# Altium schematic symbol library INH v4.01.SchLib: 17 symbols
Pins are listed as number, name and electrical type; pins without a type are passive.

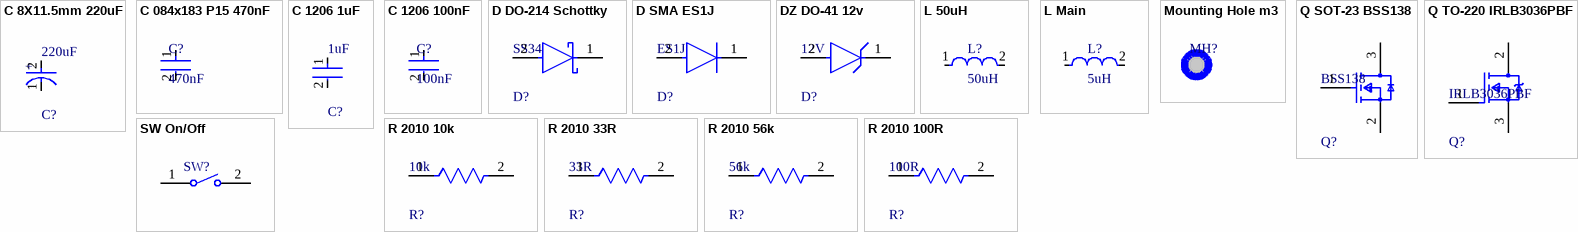
[diagram p0: symbols C 8X11.5mm 220uF to SW On/Off]

## C 8X11.5mm 220uF
designator C?, comment 220uF
Aluminum Electrolytic Capacitors (Radial Lead Type) AEC-Q200 Qualified 220uF ±20% 16V; Life (Hours): 2000Hour; Lead Diameter: 0.6mm; ESR (Equivalent Series Resistance): 130mR; Ripple Current: 500mA; Case/Package: Radial; RoHS Compliant: Yes; Mount: Through Hole; Package Quantity: 200; Capacitance: 220uF; Diameter: 8mm; Height - Seated (Max): 0.492inch; Radiation Hardening: No; Number of Pins: 2; Voltage Rating: 16V; Packaging: Bulk; Series: TA; Voltage Rating (DC): 16V; REACH SVHC: No SVHC; Min Operating Temperature: -40°C; Height: 11.5mm; Termination: Radial; Tolerance: 20%; Impedance: 130mR; Lead Pitch: 3.5mm; Max Operating Temperature: 125°C; Length: 11.5mm
simulation model C_Capacitor_Default (Model Description)
footprint THT Polar Capacitor P3.5mm (8X11.5mm)
pins: 1 C, 2 A
text: +

## C 084x183 P15 470nF
designator C?, comment 470nF
PP X2 Capacitor 470nF 275V
simulation model C_Capacitor_Default (Model Description)
footprint THT Capacitor P15mm (84x183mm)
pins: 1, 2

## C 1206 1uF
designator C?, comment 1uF
Cap Ceramic 1uF 25V X7R ±20% SMD 1206 +125°C Embossed T/R; Radiation Hardening: No; Height: 1.6mm; Mount: Surface Mount; Packaging: Tape and Reel; Width: 0.063inch; Contact Plating: Tin; Package Quantity: 1; Thickness: 0.071inch; Tolerance: 20%; Case/Package: 1206; Length: 3.2mm; Case Code (Imperial): 1206; Dielectric: X7R; Voltage Rating: 25V; Depth: 1.6mm; Voltage Rating (DC): 25V; Max Operating Temperature: 125°C; Case Code (Metric): 3216; Min Operating Temperature: -55°C; Lead Free: Lead Free; Capacitance: 1uF
simulation model C_Capacitor_Default (Model Description)
footprint 1206 Capacitor
pins: 1, 2

## C 1206 100nF
designator C?, comment 100nF
simulation model C_Capacitor_Default (Model Description)
footprint 1206 Capacitor
pins: 1, 2

## D DO-214 Schottky
designator D?, comment SS34
DIODE SCHOTTKY 40V 3A DO214AB; Manufacturer: Vishay; Manufacturer Part Number: SS34-E3/57T; Max Junction Temp: +150°C; Peak Reverse Current: 0.5mA; Max Surge Forward Current: 100A; Standoff Height: 0mm; ComponentLink2Description: Datasheet; Device Class L3: Schottky Diodes; Height: 2.62mm; Max Repetitive Reverse Voltage: 40V; Lead Free: Yes; Package: 95402; Temperature Range High: +150°C; ComponentLink2URL: http://www.vishay.com/docs/88751/ss32.pdf; Temperature: -55°C to +150°C; Footprint Url: http://www.vishay.com/docs/95402/smc.pdf; Automotive: No; Forward Current: 3A; Category: Diode; RoHS: TRUE; Device Class L2: Diodes; Mouser Description: Schottky Diodes & Rectifiers 3.0 Amp 40 Volt; Octopart: https://octopart.com/ss34-e3%2F57t-vishay-39552907; Temperature Range Low: -55°C; Device Class L1: Discrete Semiconductors; Digikey Description: DIODE SCHOTTKY 40V 3A DO214AB
simulation model diode (Model Description)
footprint DO-214
pins: 1 C, 2 A

## D SMA ES1J
designator D?, comment ES1J
DIODE GEN PURP SMA; Peak Reverse Current: 5uA; Recovery Time: 25ns; Max Reverse Voltage (DC): 100V; Number of Elements: 1; Max Forward Surge Current (Ifsm): 30A; Element Configuration: Single; Average Rectified Current: 1A; Forward Voltage: 920mV; Polarity: Standard; Natural Thermal Resistance: 25°C/W; Capacitance: 10pF; Termination: SMD/SMT; Case/Package: SMA; Number of Pins: 2; Number of Terminals: 2; Width: 2.92mm; Packaging: Tape and Reel; Max Repetitive Reverse Voltage (Vrrm): 100V; Reverse Voltage (DC): 100V; Height: 2.1mm; Reverse Recovery Time: 25ns; Package Quantity: 5000; Voltage Rating (DC): 100V; Peak Non-Repetitive Surge Current: 30A; Max Operating Temperature: 150°C; Min Operating Temperature: -55°C; Mount: Surface Mount; Lead Free: Lead Free; Forward Current: 1A; Output Current: 1A; REACH SVHC: No SVHC; Current Rating: 1A; Radiation Hardening: No; Length: 4.6mm; Weight: 0.002258oz; Max Surge Current: 30A
simulation model diode (Model Description)
footprint SMA
pins: 1 C, 2 A

## DZ DO-41 12v
designator D?, comment 12V
BZX85C10-T50R Zener Diode, 12V V(Z), 2%, 1W, Silicon, Unidirectional, DO-41; NexarPartId: 84793728; Manufacturer Lifecycle Status: ACTIVE; Impedance: 7Ω; Zener Current: 25mA; Max Reverse Leakage Current: 500nA; Element Configuration: Single; ESD Protection: No; Voltage Tolerance: 5%; Lead Free: Lead Free; Weight: 245mg; Mount: Through Hole; Contact Plating: Tin; Lifecycle Status: Production; Power Dissipation: 1W; Max Power Dissipation: 1W; RoHS: Compliant; Packaging: Tape & Reel; Voltage Rating (DC): 12V; Zener Voltage: 12V; Max Operating Temperature: 200°C; Test Current: 25mA; Number of Pins: 2; Tolerance: 5%; Min Operating Temperature: -65°C; Power Rating: 1W
simulation model diode (Model Description)
footprint DO-41
pins: 1 C, 2 A

## L 50uH
designator L?, comment 50uH
footprint L 50uh
simulation model L_Inductor_Default (Model Description)
pins: 1, 2

## L Main
designator L?, comment 5uH
footprint L Main
simulation model L_Inductor_Default (Model Description)
pins: 1, 2

## Mounting Hole m3
designator MH?  (value not drawn)
footprint Mounting Hole m3

## Q SOT-23 BSS138
designator Q?, comment BSS138
MOSFET N-CH 50V 220MA SOT-23; Turn-Off Delay Time: 20ns; Element Configuration: Single; Rds On Max: 3.5R; Gate to Source Voltage (Vgs): 20V; Threshold Voltage: 1.3V; Number of Elements: 1; Power Dissipation: 360mW; Rise Time: 9ns; Turn-On Delay Time: 2.5ns; Input Capacitance: 27pF; On-State Resistance: 6R; Lead Free: Lead Free; Length: 2.92mm; Width: 1.3mm; Drain to Source Breakdown Voltage: 50V; Min Operating Temperature: -55°C; REACH SVHC: No SVHC; Packaging: Tape and Reel; Radiation Hardening: No; Height: 0.93mm; Drain to Source Voltage (Vdss): 50V; Current Rating: 220mA; Voltage Rating (DC): 50V; Weight: 0.03g; Continuous Drain Current (ID): 220mA; Number of Pins: 3; Nominal Vgs: 1.3V; Max Power Dissipation: 360mW; Fall Time: 9ns; Drain to Source Resistance: 3.5R; Contact Plating: Tin; Case/Package: SOT-23; Package Quantity: 1; Dual Supply Voltage: 50V; Mount: Surface Mount; Termination: SMD/SMT; Max Operating Temperature: 150°C
footprint FP-318-08-IPC_B
simulation model NMOSFET_Level1 (Model Description)
pins: 1 G, 2 S, 3 D

## Q TO-220 IRLB3036PBF
designator Q?, comment IRLB3036PBF
MOSFET N-CH 60V 195A TO220AB; NexarPartId: 65874922; Max Junction Temperature (Tj): 175°C; Turn-On Delay Time: 66ns; Element Configuration: Single; Turn-Off Delay Time: 110ns; Resistance: 2.4MΩ; Threshold Voltage: 2.5V; Power Dissipation: 380W; Number of Channels: 1; Input Capacitance: 11.21nF; Drain to Source Resistance: 1.9mΩ; Rise Time: 220ns; Gate to Source Voltage (Vgs): 16V; REACH SVHC: No SVHC; RoHS: Compliant; Drain to Source Voltage (Vdss): 60V; Lead Free: Lead Free; Drain to Source Breakdown Voltage: 60V; Max Operating Temperature: 175°C; Rds On Max: 2.4mΩ; Case/Package: TO-220AB; Package Quantity: 1000; Mount: Through Hole; On-State Resistance: 2.4mΩ; Schedule B: 8541290080|8541290080|8541290080|8541290080|8541290080|8541290080|8541290080|8541290080|8541290080|8541290080|8541290080|8541290080|8541290080|8541290080|8541290080|8541290080|8541290080|8541290080|8541290080|8541290080|8541290080|8541290080|8541290080|85; Min Operating Temperature: -55°C; Continuous Drain Current (ID): 195A; Number of Elements: 1; Height: 9.02mm; Number of Pins: 3; Lifecycle Status: Production; Max Power Dissipation: 380W
footprint FP-PG-TO220-3-MFG
simulation model NMOSFET_Level1 (Model Description)
pins: 1 GATE, 2 DRAIN, 3 SOURCE

## R 2010 10k
designator R?, comment 10k
Thick Film Chip Resistor, 2010, 10kΩ, 5%, 200ppm/°C, 0.5W, 200V; Power Rating: 500mW; Resistance: 10kR; Case/Package: 2010; Packaging: Tape and Reel; Voltage Rating (DC): 200V; Lead Free: Lead Free; Temperature Coefficient: 200ppm/°C; Series: MCR; Max Power Dissipation: 500mW; Features: Automotive AEC-Q200; Max Operating Temperature: 155°C; Case Code (Imperial): 2010; RoHS Compliant: Yes; Tolerance: 5%; Number of Terminations: 2; Size Code: 2010; Min Operating Temperature: -55°C; Mount: Surface Mount; Case Code (Metric): 5025
footprint FP-MCR50-IPC_B
simulation model R_Resistor_Default (Model Description)
pins: 1, 2

## R 2010 33R
designator R?, comment 33R
Thick Film Chip Resistor, 2010, 33Ω, 5%, 200ppm/°C, 0.5W, 200V; Power Rating: 500mW; Resistance: 33R; Length: 0.197inch; Temperature Coefficient: 200ppm/°C; Packaging: Tape and Reel; Voltage Rating (DC): 200V; Tolerance: 5%; Case Code (Metric): 5025; Series: MCR; RoHS Compliant: Yes; Mount: Surface Mount; Case Code (Imperial): 2010; Size Code: 2010; Lead Free: Lead Free; Number of Terminations: 2; Min Operating Temperature: -55°C; Case/Package: 2010; Max Power Dissipation: 500mW; Height: 0.028inch; Max Operating Temperature: 155°C; Width: 0.098inch; Package Quantity: 1; Resistor Type: Thick Film
footprint FP-MCR50-IPC_B
simulation model R_Resistor_Default (Model Description)
pins: 1, 2

## R 2010 56k
designator R?, comment 56k
Thick Film Chip Resistor, 2010, 56kΩ, 5%, 200ppm/°C, 0.5W, 200V; Power Rating: 500mW; Resistance: 10kR; Case/Package: 2010; Packaging: Tape and Reel; Voltage Rating (DC): 200V; Lead Free: Lead Free; Temperature Coefficient: 200ppm/°C; Series: MCR; Max Power Dissipation: 500mW; Features: Automotive AEC-Q200; Max Operating Temperature: 155°C; Case Code (Imperial): 2010; RoHS Compliant: Yes; Tolerance: 5%; Number of Terminations: 2; Size Code: 2010; Min Operating Temperature: -55°C; Mount: Surface Mount; Case Code (Metric): 5025
footprint FP-MCR50-IPC_B
simulation model R_Resistor_Default (Model Description)
pins: 1, 2

## R 2010 100R
designator R?, comment 100R
Thick Film Chip Resistor, 2010, 100Ω, 5%, 200ppm/°C, 0.5W, 200V; Max Power Dissipation: 500mW; Number of Terminations: 2; Resistor Type: Thick Film; Packaging: Tape and Reel; Features: Automotive AEC-Q200; Contact Plating: Tin; Power Rating: 500mW; Case/Package: 2010; Max Operating Temperature: 155°C; Temperature Coefficient: 200ppm/°C; Case Code (Imperial): 2010; Case Code (Metric): 5025; Resistance: 100R; Voltage Rating (DC): 200V; Series: MCR; Min Operating Temperature: -55°C; Working Voltage: 200V; RoHS Compliant: Yes; Lead Free: Lead Free; Tolerance: 5%
footprint FP-MCR50-IPC_B
simulation model R_Resistor_Default (Model Description)
pins: 1, 2

## SW On/Off
designator SW?
Push Button Switch; Manufacturer: TE Connectivity; Voltage Rating (DC): 24V; Electrical Life: 20000Cycles; Operating Force: 180gf; Switch Travel: 0.25mm; Contact Current Rating: 50mA; Case\/Package: SMD/SMT; Actuator Length: 1.07mm; Throw Configuration: SPST; Actuator Material: Polyamide; Contact Resistance: 100mOhm; Illumination Type: Illuminated; Max Voltage Rating (DC): 12V; Manufacturer URL: http://www.te.com/; Lead Free: LeadFree; Packaging: TapeandReel; Min Operating Temperature: -35degC; Mechanical Life: 20000Cycles; Mount: SurfaceMount; REACH SVHC: Unknown; Package Quantity: 1800; Package Reference: FSMSMTR; RoHSCompliant: true; Max Operating Temperature: 85degC; Orientation: Straight; ELV: Compliant; Datasheet URL: http://www.te.com/commerce/DocumentDelivery/DDEController?Action=showdoc&DocId=Customer+Drawing%7F1437566-3%7FC2%7Fpdf%7FEnglish%7FENG_CD_1437566-3_C2_1437566_3_1_c.dwg.pdf%7F1437566-4; Package Description: 2-Pin Surface Mount Device, Body 6 x 3.5 mm, Pitch 9.19 mm; Current Rating: 50mA; Contact Plating: Silver; Termination: GullWing; Datasheet Version: Rev. C2, 08/2014; Contact Material: Brass; Mounting Technology: SurfaceMount
footprint SW On/Off
simulation model SPST_SWITCH (Model Description)
pins: 1, 2